# Altium footprint library PCB - POWER INDUCTORS - WURTH WE-HCM H9.0MM.PCBLIB: 1 footprints
Each footprint in its own frame and in the unit in brackets; x right, y up, seen from the top. Pads: shape width x height; smd on the part's side, far side on the other; paste and mask are expansions set on the pad; w line width, h text height; cw(c..) or ccw(c..) is an arc to the next point about the centre after c.
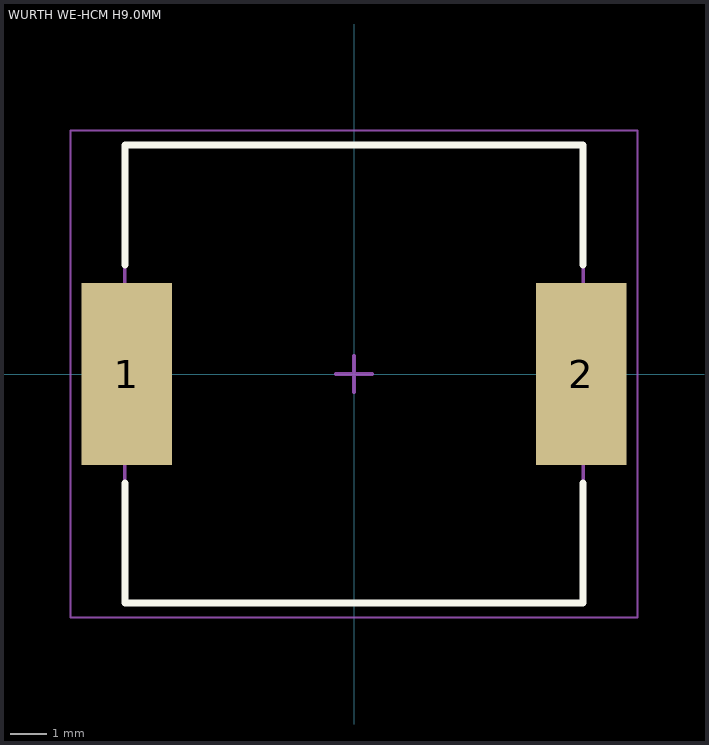
[diagram p0: the footprint, top view; thin cyan lines are the x and y axes]

## WURTH WE-HCM H9.0MM [mm]
height 9
pads (2):
  rect 2.5x5 smd: 1(-6.25,0) 2(6.25,0)
Top Overlay:
  lines w0.2: -6.3,-3 -6.3,-6.3 6.3,-6.3 6.3,-3 ; -6.3,3 -6.3,6.3 6.3,6.3 6.3,3
Mechanical 13:
  lines w0.1: -6.3,-6.3 -6.3,6.3 6.3,6.3 6.3,-6.3 -6.3,-6.3
Mechanical 15:
  lines w0.05: -7.8,-6.7 -7.8,6.7 7.8,6.7 7.8,-6.7 -7.8,-6.7
  lines w0.1: -0.5,0 0.5,0 ; 0,-0.5 0,0.5
3D body "WURTH WE-HCM-1390-9.0mmH.step": height 9, standoff 0, extent -7,-6.5 7,6.5